# EAGLE library part USB3318C-CP-TR (library USB3318C-CP-TR)
MICROCHIP - USB3318C-CP-TR - USB TRANSCEIVER, QFN-24 Source: Datasheet <http://www.microchip.com/mymicrochip/filehandler.aspx?ddocname=en562029>
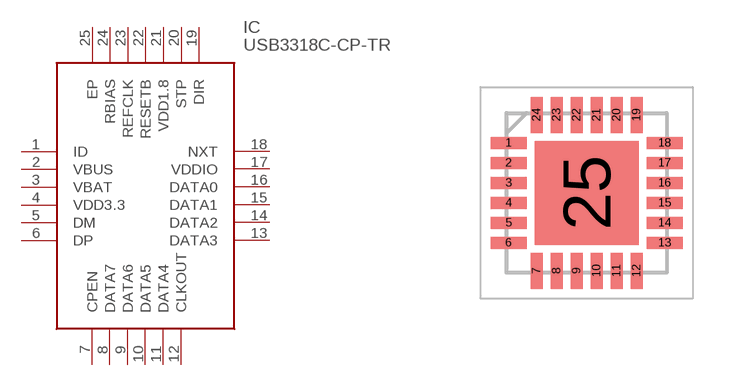
[diagram p0: symbol with the pads of QFN50P400X400X100-25N; footprint QFN50P400X400X100-25N]

Designator prefix IC

## USB3318C-CP-TR (Description: MICROCHIP - USB3318C-CP-TR - USB TRANSCEIVER, QFN-24; Height: 1mm; Manufacturer_Name: Microchip; Manufacturer_Part_Number: USB3318C-CP-TR; Mouser_Part_Number: 886-USB3318C-CP-TR; Mouser_Price-Stock: https://www.mouser.co.uk/ProductDetail/Microchip-Technology/USB3318C-CP-TR?qs=pA5MXup5wxEqKRd0j%252Bo%252BXA%3D%3D)  [QFN50P400X400X100-25N]
1  ID
2  VBUS
3  VBAT
4  VDD3.3
5  DM
6  DP
7  CPEN
8  DATA7
9  DATA6
10  DATA5
11  DATA4
12  CLKOUT
13  DATA3
14  DATA2
15  DATA1
16  DATA0
17  VDDIO
18  NXT
19  DIR
20  STP
21  VDD1.8
22  RESETB
23  REFCLK
24  RBIAS
25  EP

## Footprint QFN50P400X400X100-25N (pad centres in mm)
USB3318C-CP-TR
smd 0.9 x 0.3: 1 -1.95,1.25; 2 -1.95,0.75; 3 -1.95,0.25; 4 -1.95,-0.25; 5 -1.95,-0.75; 6 -1.95,-1.25; 13 1.95,-1.25; 14 1.95,-0.75; 15 1.95,-0.25; 16 1.95,0.25; 17 1.95,0.75; 18 1.95,1.25
smd 0.3 x 0.9: 7 -1.25,-1.95; 8 -0.75,-1.95; 9 -0.25,-1.95; 10 0.25,-1.95; 11 0.75,-1.95; 12 1.25,-1.95; 19 1.25,1.95; 20 0.75,1.95; 21 0.25,1.95; 22 -0.25,1.95; 23 -0.75,1.95; 24 -1.25,1.95
smd 2.6 x 2.6: 25 0,0